# Altium schematic symbol library H616.SchLib: 1 symbol
Pins are listed as number, name and electrical type; pins without a type are passive.

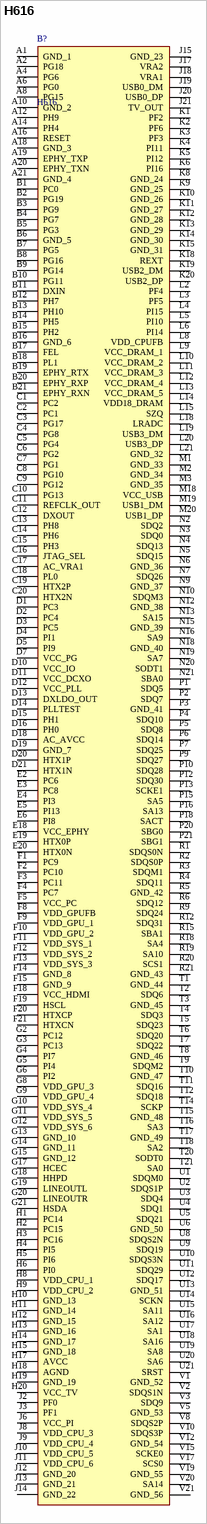
[diagram p0: symbol H616]

## H616
designator B?
SOC QUAD CORE A53 TFBGA284; Manufacturer_Name: Allwinner Technology; Geometry.Height: 1.33mm; Manufacturer_Part_Number: H616; Mouser Part Number: *; Mouser Price/Stock: *; Arrow Part Number: *; Arrow Price/Stock: *; Datasheet Link: https://linux-sunxi.org/images/b/b9/H616_Datasheet_V1.0_cleaned.pdf
footprint BGA284C65P21X18_1400X1200X133
pins: A1 GND_1, A2 PG18, A4 PG6, A6 PG0, A8 PG15, A10 GND_2, A12 PH9, A14 PH4, A16 RESET, A18 GND_3, A19 EPHY_TXP, A20 EPHY_TXN, A21 GND_4, B1 PC0, B2 PG19, B3 PG9, B4 PG7, B5 PG3, B6 GND_5, B7 PG5, B8 PG16, B9 PG14, B10 PG11, B11 DXIN, B12 PH7, B13 PH10, B14 PH5, B15 PH2, B16 GND_6, B17 FEL, B18 PL1, B19 EPHY_RTX, B20 EPHY_RXP, B21 EPHY_RXN, C1 PC2, C2 PC1, C3 PG17, C4 PG8, C5 PG4, C6 PG2, C7 PG1, C8 PG10, C9 PG12, C10 PG13, C11 REFCLK_OUT, C12 DXOUT, C13 PH8, C14 PH6, C15 PH3, C16 JTAG_SEL, C17 AC_VRA1, C18 PL0, C19 HTX2P, C20 HTX2N, D1 PC3, D2 PC4, D3 PC5, D4 PI1, D5 PI9, D7 VCC_PG, D10 VCC_IO, D11 VCC_DCXO, D12 VCC_PLL, D13 DXLDO_OUT, D14 PLLTEST, D15 PH1, D16 PH0, D18 AC_AVCC, D19 GND_7, D20 HTX1P, D21 HTX1N, E2 PC6, E3 PC8, E4 PI3, E5 PI13, E6 PI8, E18 VCC_EPHY, E19 HTX0P, E20 HTX0N, F1 PC9, F2 PC10, F3 PC11, F4 PC7, F5 VCC_PC, F8 VDD_GPUFB, F9 VDD_GPU_1, F10 VDD_GPU_2, F11 VDD_SYS_1, F12 VDD_SYS_2, F13 VDD_SYS_3, F14 GND_8, F15 GND_9, F18 VCC_HDMI, F19 HSCL, F20 HTXCP, F21 HTXCN, G2 PC12, G3 PC13, G4 PI7, G5 PI4, G6 PI2, G8 VDD_GPU_3, G9 VDD_GPU_4, G10 VDD_SYS_4, G11 VDD_SYS_5, G12 VDD_SYS_6, G13 GND_10, G14 GND_11, G15 GND_12, G17 HCEC, G18 HHPD, G19 LINEOUTL, G20 LINEOUTR, G21 HSDA, H1 PC14, H2 PC15, H3 PC16, H4 PI5, H5 PI6, H6 PI0, H8 VDD_CPU_1, H9 VDD_CPU_2, H10 GND_13, H11 GND_14, H12 GND_15, H13 GND_16, H14 GND_17, H15 GND_18, H17 AVCC, H18 AGND, H19 GND_19, H20 VCC_TV, J2 PF0, J3 PF1, J6 VCC_PI, J8 VDD_CPU_3, J9 VDD_CPU_4, J10 VDD_CPU_5, J11 VDD_CPU_6, J12 GND_20, J13 GND_21, J14 GND_22, J15 GND_23, J17 VRA2, J18 VRA1, J19 USB0_DM, J20 USB0_DP, J21 TV_OUT, K1 PF2, K2 PF6, K3 PF3, K4 PI11, K5 PI12, K6 PI16, K8 GND_24, K9 GND_25, K10 GND_26, K11 GND_27, K12 GND_28, K13 GND_29, K14 GND_30, K15 GND_31, K18 REXT, K19 USB2_DM, K20 USB2_DP, L2 PF4, L3 PF5, L4 PI15, L5 PI10, L6 PI14, L8 VDD_CPUFB, L9 VCC_DRAM_1, L10 VCC_DRAM_2, L11 VCC_DRAM_3, L12 VCC_DRAM_4, L13 VCC_DRAM_5, L14 VDD18_DRAM, L15 SZQ, L18 LRADC, L19 USB3_DM, L20 USB3_DP, L21 GND_32, M1 GND_33, M2 GND_34, M3 GND_35, M18 VCC_USB, M19 USB1_DM, M20 USB1_DP, N2 SDQ2, N3 SDQ0, N4 SDQ13, N5 SDQ15, N6 GND_36, N7 SDQ26, N9 GND_37, N10 SDQM3, N12 GND_38, N13 SA15, N15 GND_39, N16 SA9, N18 GND_40, N19 SA7, N20 SODT1, N21 SBA0, P1 SDQ5, P2 SDQ7, P3 GND_41, P4 SDQ10, P5 SDQ8, P6 SDQ14, P7 SDQ25, P9 SDQ27, P10 SDQ28, P12 SDQ30, P13 SCKE1, P15 SA5, P16 SA13, P18 SACT, P20 SBG0, P21 SBG1, R1 SDQS0N, R2 SDQS0P, R3 SDQM1, R4 SDQ11, R5 GND_42, R6 SDQ12, R9 SDQ24, R12 SDQ31, R15 SBA1, R18 SA4, R19 SA10, R20 SCS1, R21 GND_43, T1 GND_44, T2 SDQ6, T3 GND_45, T4 SDQ3, T5 SDQ23, T6 SDQ20, T7 SDQ22, T8 GND_46, T9 SDQM2, T10 GND_47, T11 SDQ16, T12 SDQ18, T14 SCKP, T15 GND_48, T16 SA3, T17 GND_49, T18 SA2, T20 SODT0, T21 SA0, U1 SDQM0, U2 SDQS1P, U3 SDQ4, U4 SDQ1, U5 SDQ21, U6 GND_50, U8 SDQS2N, U9 SDQ19, U10 SDQS3N, U11 SDQ29, U12 SDQ17, U13 GND_51, U14 SCKN, U15 SA11, U16 SA12, U17 SA1, U18 SA16, U19 SA8, U20 SA6, U21 SRST, V1 GND_52, V2 SDQS1N, V3 SDQ9, V5 GND_53, V8 SDQS2P, V10 SDQS3P, V12 GND_54, V15 SCKE0, V17 SCS0, V19 GND_55, V20 SA14, V21 GND_56